# Altium integrated library HOLYIOT lib.IntLib: 2 symbols
Pins are listed as number, name and electrical type; pins without a type are passive.

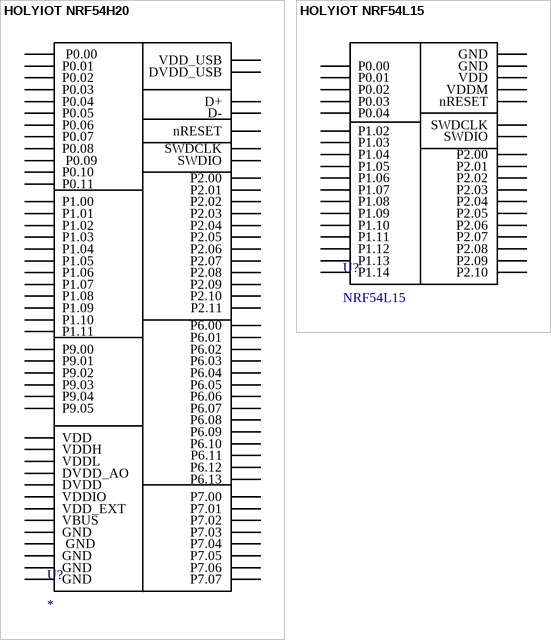
[diagram p0: symbols HOLYIOT NRF54H20 to HOLYIOT NRF54L15]

## HOLYIOT NRF54H20
designator U?
footprint HOLYIOT NRF54H20
pins: 1 GND, 2 VDDH, 3 VDD, 4  GND, 5 DVDD, 6 DVDD_AO, 7 P6.13, 8 P6.12, 9 P6.11, 10 P6.10, 11 P6.09, 12 P6.08, 13 P6.07, 14 P6.06, 15 P6.00, 16 P6.01, 17 P6.02, 18 P6.03, 19 P6.04, 20 P6.05, 21 P2.00, 22 P2.01, 23 P2.02, 24 P2.03, 25 P2.04, 26 P2.11, 27 P2.10, 28 GND, 29 GND, 30 P2.09, 31 P2.08, 32 P2.07, 33 P2.06, 34 P2.05, 35 P7.07, 36 P7.06, 37 P7.05, 38 P7.04, 39 P7.03, 40 P7.02, 41 P7.01, 42 P7.00, 43  P0.09, 44 P0.08, 45 P0.05, 46 P0.06, 47 P0.07, 48 P9.00, 49 P9.01, 50  P0.00, 51 P0.04, 52 P1.04, 53 P1.03, 54 P1.02, 55 VDDL, 56 P1.01, 57 P1.00, 58 GND, 59 P1.06, 60 P1.07, 61 P1.09, 62 P9.05, 63 P9.04, 64 P9.03, 65 P9.02, 66 P0.03, 67 P0.02, 68 P0.01, 69 P0.10, 70 P0.11, 71 VDDIO, 72 nRESET, 73 SWDIO, 74 SWDCLK, 75 VDD_EXT, 76 DVDD_USB, 77 VBUS, 78 D-, 79 D+, 80 VDD_USB, 81 P1.10, 82 P1.11, 83 P1.08, 84 P1.05

## HOLYIOT NRF54L15
designator U?, comment NRF54L15
footprint HOLYIOT NRF54L15
pins: 1 GND, 2 P1.09, 3 P1.10, 4 VDD, 5 P1.11, 6 P1.12, 7 P1.13, 8 P1.14, 9 VDDM, 10 P1.02, 11 P1.03, 12 P1.04, 13 P1.05, 14 P1.06, 15 P1.07, 16 P1.08, 17 P2.00, 18 P2.01, 19 P2.02, 20 P2.03, 21 P2.04, 22 P2.05, 23 P2.06, 24 P2.07, 25 P2.08, 26 P2.09, 27 P2.10, 28 P0.00, 29 P0.01, 30 SWDCLK, 31 SWDIO, 32 P0.02, 33 P0.03, 34 P0.04, 35 nRESET, 36 GND